# Altium footprint library 74LS47.PcbLib: 1 footprints
Each footprint in its own frame and in the unit in brackets; x right, y up, seen from the top. Pads: shape width x height; smd on the part's side, far side on the other; paste and mask are expansions set on the pad; w line width, h text height; cw(c..) or ccw(c..) is an arc to the next point about the centre after c.
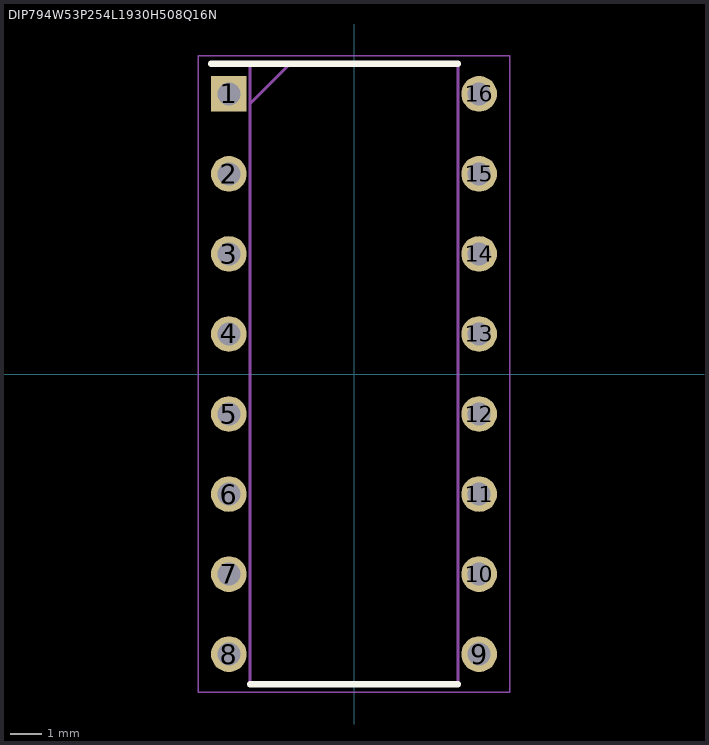
[diagram p0: the footprint, top view; thin cyan lines are the x and y axes]

## DIP794W53P254L1930H508Q16N [mm]
pads (16):
  rect 1.13x1.13 / inner round 1.13 / far side rect 1.13x1.13 hole 0.73: 1(-3.97,8.89)
  round 1.13 hole 0.73: 2(-3.97,6.35) 3(-3.97,3.81) 4(-3.97,1.27) 5(-3.97,-1.27) 6(-3.97,-3.81) 7(-3.97,-6.35) 8(-3.97,-8.89) 9(3.97,-8.89) 10(3.97,-6.35) 11(3.97,-3.81) 12(3.97,-1.27) 13(3.97,1.27) 14(3.97,3.81) 15(3.97,6.35) 16(3.97,8.89)
Top Overlay:
  lines w0.2: -4.535,9.845 3.3,9.845 ; -3.3,-9.845 3.3,-9.845
Mechanical 15:
  lines w0.1: -3.3,8.575 -2.03,9.845 ; -3.3,-9.845 3.3,-9.845 3.3,9.845 -3.3,9.845 -3.3,-9.845
Mechanical 20:
  lines w0.05: -4.945,-10.095 4.945,-10.095 4.945,10.095 -4.945,10.095 -4.945,-10.095